# Altium footprint library 3.40-防静电-无铅标识.PCBLIB: 5 footprints
Each footprint in its own frame and in the unit in brackets; x right, y up, seen from the top. Pads: shape width x height; smd on the part's side, far side on the other; paste and mask are expansions set on the pad; w line width, h text height; cw(c..) or ccw(c..) is an arc to the next point about the centre after c.
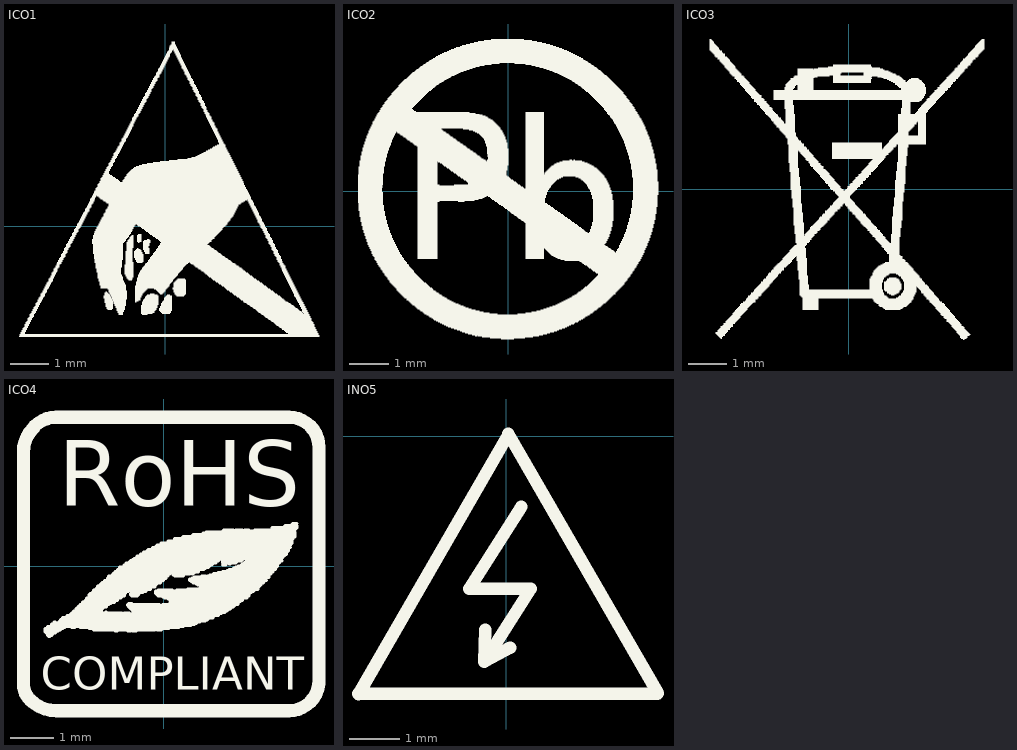
[diagram p0: the footprints below, top view; thin cyan lines are the x and y axes]

## ICO1 [mm] "[ PCBѧϰȺ514746572 ]"
Top Overlay:
  drawing of 990 lines, arcs and shapes, not listed

## ICO2 [mm] "[ PCBѧϰȺ514746572 ]"
Top Overlay:
  drawing of 960 lines, arcs and shapes, not listed

## ICO3 [mm] "[ PCBѧϰȺ514746572 ]"
Top Overlay:
  drawing of 1026 lines, arcs and shapes, not listed

## ICO4 [mm] "[ PCBѧϰȺ514746572 ]"
Top Overlay:
  drawing of 1541 lines, arcs and shapes, not listed
  text "COMPLIANT" at -2.845,-2.869 h0.76
  text "RoHS" at -2.438,1.398 h1.52

## INO5 [mm] "[ PCBѧϰȺ514746572 ]"
Top Overlay:
  lines w0.25: -2.97,-5.151 3.03,-5.151 ; -2.96,-5.161 0.04,0.035 ; -0.43,-4.501 0.49,-3.051 -0.74,-3.051 0.3,-1.411 ; -0.42,-3.871 -0.44,-4.511 0.08,-4.231 ; 0.04,0.051 3.04,-5.145